# EAGLE library part TPS61235P (library stock_components)
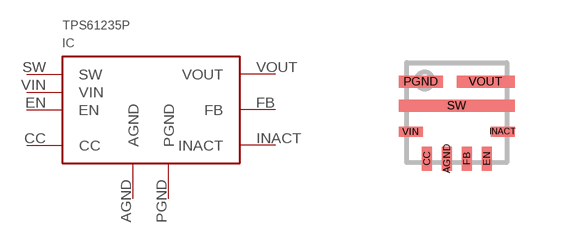
[diagram p0: symbol with the pads of TPS6823; footprint TPS6823]

Designator prefix IC

## TPS61235P  [TPS6823]
AGND  AGND  sup
CC  CC  in
EN  EN  in
FB  FB  in
INACT  INACT  in
PGND  PGND  sup
SW  SW  pwr
VIN  VIN  sup
VOUT  VOUT  out

## Footprint TPS6823 (pad centres in mm)
smd 0.25 x 0.6: AGND -0.25,-1.15; CC -0.75,-1.15; EN 0.75,-1.15; FB 0.25,-1.15
smd 0.6 x 0.25: INACT 1.15,-0.475; VIN -1.15,-0.475
smd 1.1 x 0.3: PGND -0.9,0.77
smd 2.9 x 0.3: SW 0,0.17
smd 1.45 x 0.3: VOUT 0.725,0.77